# Altium integrated library Analog Devices Data Converters Analog-to-Digital Converters.IntLib: 2400 symbols (part 233 of 338)
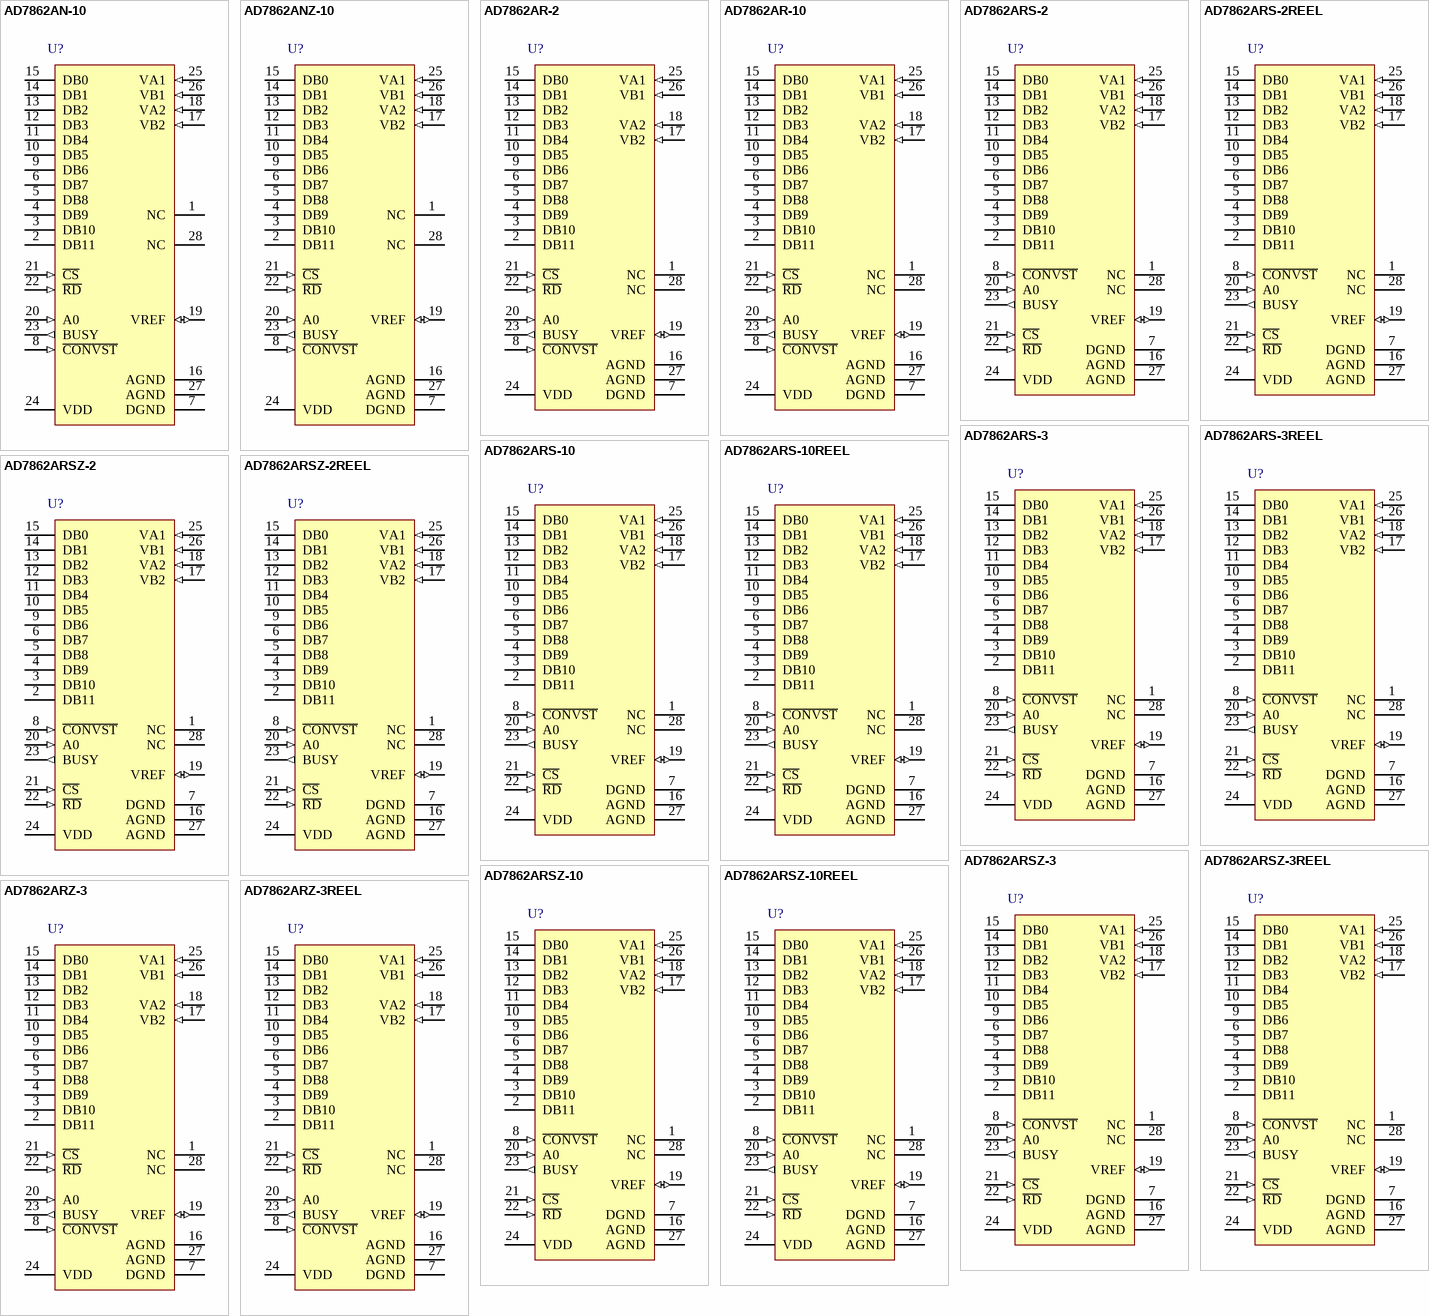
[diagram p282: symbols AD7862AN-10 to AD7862ARZ-3REEL]

## AD7862ANZ-10
designator U?
Quad 12-Bit Analog-to-Digital Converter with Parallel Interface, Simultaneous Sampling, 250KSPS, 0 to +70 degC, N-28-2, Pb-Free, Tube; Part Number: AD7862; Manufacturer: Analog Devices; Resolution (Bits): 12; Channels: 4; Throughput Rate (SPS): 250K; Interface: Par; DatasheetVersion: Rev.0; PackageVersion: 071006-A; PackageReference: N-28-2; PackageDescription: 28-Lead Plastic Dual In-Line Package [PDIP]; RoHS: Y; Packing: Tube; Mounting Technology: Through-hole; Code_JEDEC: MS-011; ComponentLink1Description: Manufacturer URL; ComponentLink1URL: http://www.analog.com/en/index.html; ComponentLink2Description: Datasheet; ComponentLink2URL: http://www.analog.com/static/imported-files/data_sheets/AD7862.pdf; ComponentLink3Description: Package Specification; ComponentLink3URL: http://www.analog.com/static/imported-files/packages/50849324123784N_28_2.pdf; ComponentLink4Description: Product URL; ComponentLink4URL: http://www.analog.com/en/analog-to-digital-converters/ad-converters/ad7862/products/product.html
footprint N-28-2 (DIP, 28-Leads, Row Spacing 15.55mm, Pitch 2.54mm, Body 37.4x13.5mm)
pins: 1 NC "No Connect", 2 DB11 (hiz) "Data Bit 11 (MSB). Three-state TTL output. Output coding is twos complement for the AD7862-10 and AD7862-3. Output coding is straight (natural) binary for the AD7862-2.", 3 DB10 (hiz) "Data Bit 10. Three-state TTL outputs.", 4 DB9 (hiz) "Data Bit 9. Three-state TTL outputs.", 5 DB8 (hiz) "Data Bit 8. Three-state TTL outputs.", 6 DB7 (hiz) "Data Bit 7. Three-state TTL outputs.", 7 DGND (power) "Digital Ground. Ground reference for digital circuitry.", 8 ~{CONVST} (in) "Convert Start Input. Logic Input. A high to low transition on this input puts both track/holds into their hold mode and starts conversion on both channels.", 9 DB6 (hiz) "Data Bit 6. Three-state TTL outputs.", 10 DB5 (hiz) "Data Bit 5. Three-state TTL outputs.", 11 DB4 (hiz) "Data Bit 4. Three-state TTL outputs.", 12 DB3 (hiz) "Data Bit 3. Three-state TTL outputs.", 13 DB2 (hiz) "Data Bit 2. Three-state TTL outputs.", 14 DB1 (hiz) "Data Bit 1. Three-state TTL outputs.", 15 DB0 (hiz) "Data Bit 0. Three-state TTL outputs.", 16 AGND (power) "Analog Ground. Ground reference for mux, track/hold, reference and DAC circuitry.", 17 VB2 (in) "Input Number 2 of Channel B. Analog Input voltage ranges of +/-10 V (AD7862-10), +/-2.5 V (AD7862-3) and 0 V-2.5 V (AD7862-2).", 18 VA2 (in) "Input Number 2 of Channel A. Analog Input voltage ranges of +/-10 V (AD7862-10), +/-2.5 V (AD7862-3) and 0 V-2.5 V (AD7862-2).", 19 VREF (io) "Reference Input/Output. This pin is connected to the internal reference through a series resistor and is the output reference source for the analog-to-digital converter. The nominal reference voltage is 2.5 V, and this (See Datasheet)", 20 A0 (in) "Multiplexer Select. This input is used in conjunction with R\D\ and C\S\ low to enable the data outputs. With A0 logic low, one read after a conversion will read the data from each of the ADCs in the sequence, VA1, VA2, and (See Datasheet)", 21 ~{CS} (in) "Chip Select Input. Active low logic input. The device is selected when this input is active.", 22 ~{RD} (in) "Read Input. Active low logic input. This input is used in conjunction with A0 and C\S\ low to enable the data outputs. With A0 logic low, one read after a conversion will read the data from each of the ADCs in the sequence, (See Datasheet)", 23 BUSY (out) "Busy Output. The busy output is triggered high by the falling edge of C\O\N\V\S\T\ and remains high until conversion is completed.", 24 VDD (power) "Analog and Digital Positive Supply Voltage, +5.0 V +/- 5%.", 25 VA1 (in) "Input Number 1 of Channel A. Analog Input voltage ranges of +/-10 V (AD7862-10), +/-2.5 V (AD7862-3) and 0 V-2.5 V (AD7862-2).", 26 VB1 (in) "Input Number 1 of Channel B. Analog Input voltage ranges of +/-10 V (AD7862-10), +/-2.5 V (AD7862-3) and 0 V-2.5 V (AD7862-2).", 27 AGND (power) "Analog Ground. Ground reference for mux, track/hold, reference and DAC circuitry.", 28 NC "No Connect"

## AD7862AR-2
designator U?
Quad 12-Bit Analog-to-Digital Converter with Parallel Interface, Simultaneous Sampling, 250KSPS, -40 to +85 degC, RW-28, Tube; Part Number: AD7862; Manufacturer: Analog Devices; Resolution (Bits): 12; Channels: 4; Throughput Rate (SPS): 250K; Interface: Par; DatasheetVersion: Rev.0; PackageVersion: 060706-A; PackageReference: RW-28; PackageDescription: 28-Lead Standard Small Outline Package [SOIC_W]; RoHS: N; Packing: Tube; Mounting Technology: Surface Mount; Code_JEDEC: MS-013-AE; ComponentLink1Description: Manufacturer URL; ComponentLink1URL: http://www.analog.com/en/index.html; ComponentLink2Description: Datasheet; ComponentLink2URL: http://www.analog.com/static/imported-files/data_sheets/AD7862.pdf; ComponentLink3Description: Package Specification; ComponentLink3URL: http://www.analog.com/static/imported-files/packages/35833120341221RW_28.pdf; ComponentLink4Description: Product URL; ComponentLink4URL: http://www.analog.com/en/analog-to-digital-converters/ad-converters/ad7862/products/product.html
footprint RW-28_N (SOIC, 28-Leads, Body 17.9x7.5mm, Pitch 1.27mm, IPC Medium Density)
footprint RW-28_L (SOIC, 28-Leads, Body 17.9x7.5mm, Pitch 1.27mm, IPC High Density)
footprint RW-28_M (SOIC, 28-Leads, Body 17.9x7.5mm, Pitch 1.27mm, IPC Low Density)
pins: 1 NC "No Connect", 2 DB11 (hiz) "Data Bit 11 (MSB). Three-state TTL output. Output coding is twos complement for the AD7862-10 and AD7862-3. Output coding is straight (natural) binary for the AD7862-2.", 3 DB10 (hiz) "Data Bit 10 to Data Bit 7. Three-state TTL outputs.", 4 DB9 (hiz) "Data Bit 10 to Data Bit 7. Three-state TTL outputs.", 5 DB8 (hiz) "Data Bit 10 to Data Bit 7. Three-state TTL outputs.", 6 DB7 (hiz) "Data Bit 10 to Data Bit 7. Three-state TTL outputs.", 7 DGND (power) "Digital Ground. Ground reference for digital circuitry.", 8 ~{CONVST} (in) "Convert Start Input. Logic Input. A high to low transition on this input puts both track/holds into their hold mode and starts conversion on both channels.", 9 DB6 (hiz) "Data Bit 6 to Data Bit 0. Three-state TTL outputs.", 10 DB5 (hiz) "Data Bit 6 to Data Bit 0. Three-state TTL outputs.", 11 DB4 (hiz) "Data Bit 6 to Data Bit 0. Three-state TTL outputs.", 12 DB3 (hiz) "Data Bit 6 to Data Bit 0. Three-state TTL outputs.", 13 DB2 (hiz) "Data Bit 6 to Data Bit 0. Three-state TTL outputs.", 14 DB1 (hiz) "Data Bit 6 to Data Bit 0. Three-state TTL outputs.", 15 DB0 (hiz) "Data Bit 6 to Data Bit 0. Three-state TTL outputs.", 16 AGND (power) "Analog Ground. Ground reference for mux, track/hold, reference and DAC circuitry.", 17 VB2 (in) "Input Number 2 of Channel B. Analog Input voltage ranges of +/-10 V (AD7862-10), +/-2.5 V (AD7862-3) and 0 V-2.5 V (AD7862-2).", 18 VA2 (in) "Input Number 2 of Channel A. Analog Input voltage ranges of +/-10 V (AD7862-10), +/-2.5 V (AD7862-3) and 0 V-2.5 V (AD7862-2).", 19 VREF (io) "Reference Input/Output. This pin is connected to the internal reference through a series resistor and is the output reference source for the analog-to-digital converter. The nominal reference voltage is 2.5 V,and this (See Datasheet)", 20 A0 (in) "Multiplexer Select. This input is used in conjunction with R\D\ and C\S\ low to enable the data outputs.With A0 logic low, one read after a conversion will read the data from each of the ADCs in the sequence,VA1, VA2, and a (See Datasheet)", 21 ~{CS} (in) "Chip Select Input. Active low logic input. The device is selected when this input is active.", 22 ~{RD} (in) "Read Input. Active low logic input. This input is used in conjunction with A0 and C\S\ low to enable the data outputs. With A0 logic low, one read after a conversion will read the data from each of the ADCs in the sequence, (See Datasheet)", 23 BUSY (out) "Busy Output. The busy output is triggered high by the falling edge of C\O\N\V\S\T\ and remains high until conversion is completed.", 24 VDD (power) "Analog and Digital Positive Supply Voltage, +5.0 V +/- 5%.", 25 VA1 (in) "Input Number 1 of Channel A. Analog Input voltage ranges of +/-10 V (AD7862-10), +/-2.5 V (AD7862-3) and 0 V-2.5 V (AD7862-2).", 26 VB1 (in) "Input Number 1 of Channel B. Analog Input voltage ranges of +/-10 V (AD7862-10), +/-2.5 V (AD7862-3) and 0 V-2.5 V (AD7862-2).", 27 AGND (power) "Analog Ground. Ground reference for mux, track/hold, reference and DAC circuitry.", 28 NC "No Connect"

## AD7862AR-10
designator U?
Quad 12-Bit Analog-to-Digital Converter with Parallel Interface, Simultaneous Sampling, 250KSPS, 0 to +70 degC, RW-28, Tube; Part Number: AD7862; Manufacturer: Analog Devices; Resolution (Bits): 12; Channels: 4; Throughput Rate (SPS): 250K; Interface: Par; DatasheetVersion: Rev.0; PackageVersion: 060706-A; PackageReference: RW-28; PackageDescription: 28-Lead Standard Small Outline Package [SOIC_W]; RoHS: N; Packing: Tube; Mounting Technology: Surface Mount; Code_JEDEC: MS-013-AE; ComponentLink1Description: Manufacturer URL; ComponentLink1URL: http://www.analog.com/en/index.html; ComponentLink2Description: Datasheet; ComponentLink2URL: http://www.analog.com/static/imported-files/data_sheets/AD7862.pdf; ComponentLink3Description: Package Specification; ComponentLink3URL: http://www.analog.com/static/imported-files/packages/35833120341221RW_28.pdf; ComponentLink4Description: Product URL; ComponentLink4URL: http://www.analog.com/en/analog-to-digital-converters/ad-converters/ad7862/products/product.html
footprint RW-28_N (SOIC, 28-Leads, Body 17.9x7.5mm, Pitch 1.27mm, IPC Medium Density)
footprint RW-28_L (SOIC, 28-Leads, Body 17.9x7.5mm, Pitch 1.27mm, IPC High Density)
footprint RW-28_M (SOIC, 28-Leads, Body 17.9x7.5mm, Pitch 1.27mm, IPC Low Density)
pins: 1 NC "No Connect", 2 DB11 (hiz) "Data Bit 11 (MSB). Three-state TTL output. Output coding is twos complement for the AD7862-10 and AD7862-3. Output coding is straight (natural) binary for the AD7862-2.", 3 DB10 (hiz) "Data Bit 10 to Data Bit 7. Three-state TTL outputs.", 4 DB9 (hiz) "Data Bit 10 to Data Bit 7. Three-state TTL outputs.", 5 DB8 (hiz) "Data Bit 10 to Data Bit 7. Three-state TTL outputs.", 6 DB7 (hiz) "Data Bit 10 to Data Bit 7. Three-state TTL outputs.", 7 DGND (power) "Digital Ground. Ground reference for digital circuitry.", 8 ~{CONVST} (in) "Convert Start Input. Logic Input. A high to low transition on this input puts both track/holds into their hold mode and starts conversion on both channels.", 9 DB6 (hiz) "Data Bit 6 to Data Bit 0. Three-state TTL outputs.", 10 DB5 (hiz) "Data Bit 6 to Data Bit 0. Three-state TTL outputs.", 11 DB4 (hiz) "Data Bit 6 to Data Bit 0. Three-state TTL outputs.", 12 DB3 (hiz) "Data Bit 6 to Data Bit 0. Three-state TTL outputs.", 13 DB2 (hiz) "Data Bit 6 to Data Bit 0. Three-state TTL outputs.", 14 DB1 (hiz) "Data Bit 6 to Data Bit 0. Three-state TTL outputs.", 15 DB0 (hiz) "Data Bit 6 to Data Bit 0. Three-state TTL outputs.", 16 AGND (power) "Analog Ground. Ground reference for mux, track/hold, reference and DAC circuitry.", 17 VB2 (in) "Input Number 2 of Channel B. Analog Input voltage ranges of +/-10 V (AD7862-10), +/-2.5 V (AD7862-3) and 0 V-2.5 V (AD7862-2).", 18 VA2 (in) "Input Number 2 of Channel A. Analog Input voltage ranges of +/-10 V (AD7862-10), +/-2.5 V (AD7862-3) and 0 V-2.5 V (AD7862-2).", 19 VREF (io) "Reference Input/Output. This pin is connected to the internal reference through a series resistor and is the output reference source for the analog-to-digital converter. The nominal reference voltage is 2.5 V,and this (See Datasheet)", 20 A0 (in) "Multiplexer Select. This input is used in conjunction with R\D\ and C\S\ low to enable the data outputs.With A0 logic low, one read after a conversion will read the data from each of the ADCs in the sequence,VA1, VA2, and a (See Datasheet)", 21 ~{CS} (in) "Chip Select Input. Active low logic input. The device is selected when this input is active.", 22 ~{RD} (in) "Read Input. Active low logic input. This input is used in conjunction with A0 and C\S\ low to enable the data outputs. With A0 logic low, one read after a conversion will read the data from each of the ADCs in the sequence, (See Datasheet)", 23 BUSY (out) "Busy Output. The busy output is triggered high by the falling edge of C\O\N\V\S\T\ and remains high until conversion is completed.", 24 VDD (power) "Analog and Digital Positive Supply Voltage, +5.0 V +/- 5%.", 25 VA1 (in) "Input Number 1 of Channel A. Analog Input voltage ranges of +/-10 V (AD7862-10), +/-2.5 V (AD7862-3) and 0 V-2.5 V (AD7862-2).", 26 VB1 (in) "Input Number 1 of Channel B. Analog Input voltage ranges of +/-10 V (AD7862-10), +/-2.5 V (AD7862-3) and 0 V-2.5 V (AD7862-2).", 27 AGND (power) "Analog Ground. Ground reference for mux, track/hold, reference and DAC circuitry.", 28 NC "No Connect"

## AD7862ARS-2
designator U?
Quad 12-Bit Analog-to-Digital Converter with Parallel Interface, Simultaneous Sampling, 250KSPS, 0 to +70 degC, RS-28, Tube; Part Number: AD7862; Manufacturer: Analog Devices; Resolution (Bits): 12; Channels: 4; Throughput Rate (SPS): 250K; Interface: Par; DatasheetVersion: Rev.0; PackageVersion: 060106-A; PackageReference: RS-28; PackageDescription: 28-Lead Shrink Small Outline Package [SSOP]; RoHS: N; Packing: Tube; Mounting Technology: Surface Mount; Code_JEDEC: MO-150-AH; ComponentLink1Description: Manufacturer URL; ComponentLink1URL: http://www.analog.com/en/index.html; ComponentLink2Description: Datasheet; ComponentLink2URL: http://www.analog.com/static/imported-files/data_sheets/AD7862.pdf; ComponentLink3Description: Package Specification; ComponentLink3URL: http://www.analog.com/static/imported-files/packages/32122249223724RS_28.pdf; ComponentLink4Description: Product URL; ComponentLink4URL: http://www.analog.com/en/analog-to-digital-converters/ad-converters/ad7862/products/product.html
footprint RS-28_N (SOP, 28-Leads, Body 10.2x5.3mm, Pitch 0.65mm, IPC Medium Density)
footprint RS-28_L (SOP, 28-Leads, Body 10.2x5.3mm, Pitch 0.65mm, IPC High Density)
footprint RS-28_M (SOP, 28-Leads, Body 10.2x5.3mm, Pitch 0.65mm, IPC Low Density)
pins: 1 NC "No Connect", 2 DB11 (hiz) "Data Bit 11 (MSB).  Three-state TTL output.  Output coding is twos complement for the AD7862-10 and AD7862-3.  Output coding is straight (natural) binary for the AD7862-2.", 3 DB10 (hiz) "Data Bit 10. Three-state TTL outputs.", 4 DB9 (hiz) "Data Bit 9. Three-state TTL outputs.", 5 DB8 (hiz) "Data Bit 8. Three-state TTL outputs.", 6 DB7 (hiz) "Data Bit 7. Three-state TTL outputs.", 7 DGND (power) "Digital Ground. Ground reference for digital circuitry.", 8 ~{CONVST} (in) "Convert Start Input. Logic Input.  A high to low transition on this input puts both track/holds into their hold mode and starts conversion on both channels.", 9 DB6 (hiz) "Data Bit 6. Three-state TTL outputs.", 10 DB5 (hiz) "Data Bit 5. Three-state TTL outputs.", 11 DB4 (hiz) "Data Bit 4. Three-state TTL outputs.", 12 DB3 (hiz) "Data Bit 3. Three-state TTL outputs.", 13 DB2 (hiz) "Data Bit 2. Three-state TTL outputs.", 14 DB1 (hiz) "Data Bit 1. Three-state TTL outputs.", 15 DB0 (hiz) "Data Bit 0. Three-state TTL outputs.", 16 AGND (power) "Analog Ground. Ground reference for mux, track/hold, reference and DAC circuitry.", 17 VB2 (in) "Input Number 2 of Channel B.  Analog Input voltage ranges of +/-10 V (AD7862-10), +/-2.5 V (AD7862-3) and 0 V-2.5 V (AD7862-2).", 18 VA2 (in) "Input Number 2 of Channel A.  Analog Input voltage ranges of +/-10 V (AD7862-10), +/-2.5 V (AD7862-3) and 0 V-2.5 V (AD7862-2).", 19 VREF (io) "Reference Input/Output. This pin is connected to the internal reference through a series resistor and is the output reference source for the analog-to-digital converter. The nominal reference voltage is 2.5 V,and this (See Datasheet)", 20 A0 (in) "Multiplexer Select. This input is used in conjunction with R\D\ and C\S\ low to enable the data outputs.With A0 logic low, one read after a conversion will read the data from each of the ADCs in the sequence,VA1, VA2, and a (See Datasheet)", 21 ~{CS} (in) "Chip Select Input.  Active low logic input. The device is selected when this input is active.", 22 ~{RD} (in) "Read Input.  Active low logic input. This input is used in conjunction with A0 and C\S\ low to enable the data outputs.  With A0 logic low, one read after a conversion will read the data from each of the ADCs in the (See Datasheet)", 23 BUSY (out) "Busy Output. The busy output is triggered high by the falling edge of C\O\N\V\S\T\ and remains high until conversion is completed.", 24 VDD (power) "Analog and Digital Positive Supply Voltage, +5.0 V +/-5%.", 25 VA1 (in) "Input Number 1 of Channel A.  Analog Input voltage ranges of +/-10 V (AD7862-10), +/-2.5 V (AD7862-3) and 0 V-2.5 V (AD7862-2).", 26 VB1 (in) "Input Number 1 of Channel B.  Analog Input voltage ranges of +/-10 V (AD7862-10), +/-2.5 V (AD7862-3) and 0 V-2.5 V (AD7862-2).", 27 AGND (power) "Analog Ground. Ground reference for mux, track/hold, reference and DAC circuitry.", 28 NC "No Connect"

## AD7862ARS-2REEL
designator U?
Quad 12-Bit Analog-to-Digital Converter with Parallel Interface, Simultaneous Sampling, 250KSPS, 0 to +70 degC, RS-28, Reel; Part Number: AD7862; Manufacturer: Analog Devices; Resolution (Bits): 12; Channels: 4; Throughput Rate (SPS): 250K; Interface: Par; DatasheetVersion: Rev.0; PackageVersion: 060106-A; PackageReference: RS-28; PackageDescription: 28-Lead Shrink Small Outline Package [SSOP]; RoHS: N; Packing: Reel; Mounting Technology: Surface Mount; Code_JEDEC: MO-150-AH; ComponentLink1Description: Manufacturer URL; ComponentLink1URL: http://www.analog.com/en/index.html; ComponentLink2Description: Datasheet; ComponentLink2URL: http://www.analog.com/static/imported-files/data_sheets/AD7862.pdf; ComponentLink3Description: Package Specification; ComponentLink3URL: http://www.analog.com/static/imported-files/packages/32122249223724RS_28.pdf; ComponentLink4Description: Product URL; ComponentLink4URL: http://www.analog.com/en/analog-to-digital-converters/ad-converters/ad7862/products/product.html
footprint RS-28_N (SOP, 28-Leads, Body 10.2x5.3mm, Pitch 0.65mm, IPC Medium Density)
footprint RS-28_L (SOP, 28-Leads, Body 10.2x5.3mm, Pitch 0.65mm, IPC High Density)
footprint RS-28_M (SOP, 28-Leads, Body 10.2x5.3mm, Pitch 0.65mm, IPC Low Density)
pins: 1 NC "No Connect", 2 DB11 (hiz) "Data Bit 11 (MSB).  Three-state TTL output.  Output coding is twos complement for the AD7862-10 and AD7862-3.  Output coding is straight (natural) binary for the AD7862-2.", 3 DB10 (hiz) "Data Bit 10. Three-state TTL outputs.", 4 DB9 (hiz) "Data Bit 9. Three-state TTL outputs.", 5 DB8 (hiz) "Data Bit 8. Three-state TTL outputs.", 6 DB7 (hiz) "Data Bit 7. Three-state TTL outputs.", 7 DGND (power) "Digital Ground. Ground reference for digital circuitry.", 8 ~{CONVST} (in) "Convert Start Input. Logic Input.  A high to low transition on this input puts both track/holds into their hold mode and starts conversion on both channels.", 9 DB6 (hiz) "Data Bit 6. Three-state TTL outputs.", 10 DB5 (hiz) "Data Bit 5. Three-state TTL outputs.", 11 DB4 (hiz) "Data Bit 4. Three-state TTL outputs.", 12 DB3 (hiz) "Data Bit 3. Three-state TTL outputs.", 13 DB2 (hiz) "Data Bit 2. Three-state TTL outputs.", 14 DB1 (hiz) "Data Bit 1. Three-state TTL outputs.", 15 DB0 (hiz) "Data Bit 0. Three-state TTL outputs.", 16 AGND (power) "Analog Ground. Ground reference for mux, track/hold, reference and DAC circuitry.", 17 VB2 (in) "Input Number 2 of Channel B.  Analog Input voltage ranges of +/-10 V (AD7862-10), +/-2.5 V (AD7862-3) and 0 V-2.5 V (AD7862-2).", 18 VA2 (in) "Input Number 2 of Channel A.  Analog Input voltage ranges of +/-10 V (AD7862-10), +/-2.5 V (AD7862-3) and 0 V-2.5 V (AD7862-2).", 19 VREF (io) "Reference Input/Output. This pin is connected to the internal reference through a series resistor and is the output reference source for the analog-to-digital converter. The nominal reference voltage is 2.5 V,and this (See Datasheet)", 20 A0 (in) "Multiplexer Select. This input is used in conjunction with R\D\ and C\S\ low to enable the data outputs.With A0 logic low, one read after a conversion will read the data from each of the ADCs in the sequence,VA1, VA2, and a (See Datasheet)", 21 ~{CS} (in) "Chip Select Input.  Active low logic input. The device is selected when this input is active.", 22 ~{RD} (in) "Read Input.  Active low logic input. This input is used in conjunction with A0 and C\S\ low to enable the data outputs.  With A0 logic low, one read after a conversion will read the data from each of the ADCs in the (See Datasheet)", 23 BUSY (out) "Busy Output. The busy output is triggered high by the falling edge of C\O\N\V\S\T\ and remains high until conversion is completed.", 24 VDD (power) "Analog and Digital Positive Supply Voltage, +5.0 V +/-5%.", 25 VA1 (in) "Input Number 1 of Channel A.  Analog Input voltage ranges of +/-10 V (AD7862-10), +/-2.5 V (AD7862-3) and 0 V-2.5 V (AD7862-2).", 26 VB1 (in) "Input Number 1 of Channel B.  Analog Input voltage ranges of +/-10 V (AD7862-10), +/-2.5 V (AD7862-3) and 0 V-2.5 V (AD7862-2).", 27 AGND (power) "Analog Ground. Ground reference for mux, track/hold, reference and DAC circuitry.", 28 NC "No Connect"

## AD7862ARS-3
designator U?
Quad 12-Bit Analog-to-Digital Converter with Parallel Interface, Simultaneous Sampling, 250KSPS, 0 to +70 degC, RS-28, Tube; Part Number: AD7862; Manufacturer: Analog Devices; Resolution (Bits): 12; Channels: 4; Throughput Rate (SPS): 250K; Interface: Par; DatasheetVersion: Rev.0; PackageVersion: 060106-A; PackageReference: RS-28; PackageDescription: 28-Lead Shrink Small Outline Package [SSOP]; RoHS: N; Packing: Tube; Mounting Technology: Surface Mount; Code_JEDEC: MO-150-AH; ComponentLink1Description: Manufacturer URL; ComponentLink1URL: http://www.analog.com/en/index.html; ComponentLink2Description: Datasheet; ComponentLink2URL: http://www.analog.com/static/imported-files/data_sheets/AD7862.pdf; ComponentLink3Description: Package Specification; ComponentLink3URL: http://www.analog.com/static/imported-files/packages/32122249223724RS_28.pdf; ComponentLink4Description: Product URL; ComponentLink4URL: http://www.analog.com/en/analog-to-digital-converters/ad-converters/ad7862/products/product.html
footprint RS-28_N (SOP, 28-Leads, Body 10.2x5.3mm, Pitch 0.65mm, IPC Medium Density)
footprint RS-28_L (SOP, 28-Leads, Body 10.2x5.3mm, Pitch 0.65mm, IPC High Density)
footprint RS-28_M (SOP, 28-Leads, Body 10.2x5.3mm, Pitch 0.65mm, IPC Low Density)
pins: 1 NC "No Connect", 2 DB11 (hiz) "Data Bit 11 (MSB).  Three-state TTL output.  Output coding is twos complement for the AD7862-10 and AD7862-3.  Output coding is straight (natural) binary for the AD7862-2.", 3 DB10 (hiz) "Data Bit 10. Three-state TTL outputs.", 4 DB9 (hiz) "Data Bit 9. Three-state TTL outputs.", 5 DB8 (hiz) "Data Bit 8. Three-state TTL outputs.", 6 DB7 (hiz) "Data Bit 7. Three-state TTL outputs.", 7 DGND (power) "Digital Ground. Ground reference for digital circuitry.", 8 ~{CONVST} (in) "Convert Start Input. Logic Input.  A high to low transition on this input puts both track/holds into their hold mode and starts conversion on both channels.", 9 DB6 (hiz) "Data Bit 6. Three-state TTL outputs.", 10 DB5 (hiz) "Data Bit 5. Three-state TTL outputs.", 11 DB4 (hiz) "Data Bit 4. Three-state TTL outputs.", 12 DB3 (hiz) "Data Bit 3. Three-state TTL outputs.", 13 DB2 (hiz) "Data Bit 2. Three-state TTL outputs.", 14 DB1 (hiz) "Data Bit 1. Three-state TTL outputs.", 15 DB0 (hiz) "Data Bit 0. Three-state TTL outputs.", 16 AGND (power) "Analog Ground. Ground reference for mux, track/hold, reference and DAC circuitry.", 17 VB2 (in) "Input Number 2 of Channel B.  Analog Input voltage ranges of +/-10 V (AD7862-10), +/-2.5 V (AD7862-3) and 0 V-2.5 V (AD7862-2).", 18 VA2 (in) "Input Number 2 of Channel A.  Analog Input voltage ranges of +/-10 V (AD7862-10), +/-2.5 V (AD7862-3) and 0 V-2.5 V (AD7862-2).", 19 VREF (io) "Reference Input/Output. This pin is connected to the internal reference through a series resistor and is the output reference source for the analog-to-digital converter. The nominal reference voltage is 2.5 V,and this (See Datasheet)", 20 A0 (in) "Multiplexer Select. This input is used in conjunction with R\D\ and C\S\ low to enable the data outputs.With A0 logic low, one read after a conversion will read the data from each of the ADCs in the sequence,VA1, VA2, and a (See Datasheet)", 21 ~{CS} (in) "Chip Select Input.  Active low logic input. The device is selected when this input is active.", 22 ~{RD} (in) "Read Input.  Active low logic input. This input is used in conjunction with A0 and C\S\ low to enable the data outputs.  With A0 logic low, one read after a conversion will read the data from each of the ADCs in the (See Datasheet)", 23 BUSY (out) "Busy Output. The busy output is triggered high by the falling edge of C\O\N\V\S\T\ and remains high until conversion is completed.", 24 VDD (power) "Analog and Digital Positive Supply Voltage, +5.0 V +/-5%.", 25 VA1 (in) "Input Number 1 of Channel A.  Analog Input voltage ranges of +/-10 V (AD7862-10), +/-2.5 V (AD7862-3) and 0 V-2.5 V (AD7862-2).", 26 VB1 (in) "Input Number 1 of Channel B.  Analog Input voltage ranges of +/-10 V (AD7862-10), +/-2.5 V (AD7862-3) and 0 V-2.5 V (AD7862-2).", 27 AGND (power) "Analog Ground. Ground reference for mux, track/hold, reference and DAC circuitry.", 28 NC "No Connect"

## AD7862ARS-3REEL
designator U?
Quad 12-Bit Analog-to-Digital Converter with Parallel Interface, Simultaneous Sampling, 250KSPS, 0 to +70 degC, RS-28, Reel; Part Number: AD7862; Manufacturer: Analog Devices; Resolution (Bits): 12; Channels: 4; Throughput Rate (SPS): 250K; Interface: Par; DatasheetVersion: Rev.0; PackageVersion: 060106-A; PackageReference: RS-28; PackageDescription: 28-Lead Shrink Small Outline Package [SSOP]; RoHS: N; Packing: Reel; Mounting Technology: Surface Mount; Code_JEDEC: MO-150-AH; ComponentLink1Description: Manufacturer URL; ComponentLink1URL: http://www.analog.com/en/index.html; ComponentLink2Description: Datasheet; ComponentLink2URL: http://www.analog.com/static/imported-files/data_sheets/AD7862.pdf; ComponentLink3Description: Package Specification; ComponentLink3URL: http://www.analog.com/static/imported-files/packages/32122249223724RS_28.pdf; ComponentLink4Description: Product URL; ComponentLink4URL: http://www.analog.com/en/analog-to-digital-converters/ad-converters/ad7862/products/product.html
footprint RS-28_N (SOP, 28-Leads, Body 10.2x5.3mm, Pitch 0.65mm, IPC Medium Density)
footprint RS-28_L (SOP, 28-Leads, Body 10.2x5.3mm, Pitch 0.65mm, IPC High Density)
footprint RS-28_M (SOP, 28-Leads, Body 10.2x5.3mm, Pitch 0.65mm, IPC Low Density)
pins: 1 NC "No Connect", 2 DB11 (hiz) "Data Bit 11 (MSB).  Three-state TTL output.  Output coding is twos complement for the AD7862-10 and AD7862-3.  Output coding is straight (natural) binary for the AD7862-2.", 3 DB10 (hiz) "Data Bit 10. Three-state TTL outputs.", 4 DB9 (hiz) "Data Bit 9. Three-state TTL outputs.", 5 DB8 (hiz) "Data Bit 8. Three-state TTL outputs.", 6 DB7 (hiz) "Data Bit 7. Three-state TTL outputs.", 7 DGND (power) "Digital Ground. Ground reference for digital circuitry.", 8 ~{CONVST} (in) "Convert Start Input. Logic Input.  A high to low transition on this input puts both track/holds into their hold mode and starts conversion on both channels.", 9 DB6 (hiz) "Data Bit 6. Three-state TTL outputs.", 10 DB5 (hiz) "Data Bit 5. Three-state TTL outputs.", 11 DB4 (hiz) "Data Bit 4. Three-state TTL outputs.", 12 DB3 (hiz) "Data Bit 3. Three-state TTL outputs.", 13 DB2 (hiz) "Data Bit 2. Three-state TTL outputs.", 14 DB1 (hiz) "Data Bit 1. Three-state TTL outputs.", 15 DB0 (hiz) "Data Bit 0. Three-state TTL outputs.", 16 AGND (power) "Analog Ground. Ground reference for mux, track/hold, reference and DAC circuitry.", 17 VB2 (in) "Input Number 2 of Channel B.  Analog Input voltage ranges of +/-10 V (AD7862-10), +/-2.5 V (AD7862-3) and 0 V-2.5 V (AD7862-2).", 18 VA2 (in) "Input Number 2 of Channel A.  Analog Input voltage ranges of +/-10 V (AD7862-10), +/-2.5 V (AD7862-3) and 0 V-2.5 V (AD7862-2).", 19 VREF (io) "Reference Input/Output. This pin is connected to the internal reference through a series resistor and is the output reference source for the analog-to-digital converter. The nominal reference voltage is 2.5 V,and this (See Datasheet)", 20 A0 (in) "Multiplexer Select. This input is used in conjunction with R\D\ and C\S\ low to enable the data outputs.With A0 logic low, one read after a conversion will read the data from each of the ADCs in the sequence,VA1, VA2, and a (See Datasheet)", 21 ~{CS} (in) "Chip Select Input.  Active low logic input. The device is selected when this input is active.", 22 ~{RD} (in) "Read Input.  Active low logic input. This input is used in conjunction with A0 and C\S\ low to enable the data outputs.  With A0 logic low, one read after a conversion will read the data from each of the ADCs in the (See Datasheet)", 23 BUSY (out) "Busy Output. The busy output is triggered high by the falling edge of C\O\N\V\S\T\ and remains high until conversion is completed.", 24 VDD (power) "Analog and Digital Positive Supply Voltage, +5.0 V +/-5%.", 25 VA1 (in) "Input Number 1 of Channel A.  Analog Input voltage ranges of +/-10 V (AD7862-10), +/-2.5 V (AD7862-3) and 0 V-2.5 V (AD7862-2).", 26 VB1 (in) "Input Number 1 of Channel B.  Analog Input voltage ranges of +/-10 V (AD7862-10), +/-2.5 V (AD7862-3) and 0 V-2.5 V (AD7862-2).", 27 AGND (power) "Analog Ground. Ground reference for mux, track/hold, reference and DAC circuitry.", 28 NC "No Connect"

## AD7862ARS-10
designator U?
Quad 12-Bit Analog-to-Digital Converter with Parallel Interface, Simultaneous Sampling, 250KSPS, 0 to +70 degC, RS-28, Tube; Part Number: AD7862; Manufacturer: Analog Devices; Resolution (Bits): 12; Channels: 4; Throughput Rate (SPS): 250K; Interface: Par; DatasheetVersion: Rev.0; PackageVersion: 060106-A; PackageReference: RS-28; PackageDescription: 28-Lead Shrink Small Outline Package [SSOP]; RoHS: N; Packing: Tube; Mounting Technology: Surface Mount; Code_JEDEC: MO-150-AH; ComponentLink1Description: Manufacturer URL; ComponentLink1URL: http://www.analog.com/en/index.html; ComponentLink2Description: Datasheet; ComponentLink2URL: http://www.analog.com/static/imported-files/data_sheets/AD7862.pdf; ComponentLink3Description: Package Specification; ComponentLink3URL: http://www.analog.com/static/imported-files/packages/32122249223724RS_28.pdf; ComponentLink4Description: Product URL; ComponentLink4URL: http://www.analog.com/en/analog-to-digital-converters/ad-converters/ad7862/products/product.html
footprint RS-28_N (SOP, 28-Leads, Body 10.2x5.3mm, Pitch 0.65mm, IPC Medium Density)
footprint RS-28_L (SOP, 28-Leads, Body 10.2x5.3mm, Pitch 0.65mm, IPC High Density)
footprint RS-28_M (SOP, 28-Leads, Body 10.2x5.3mm, Pitch 0.65mm, IPC Low Density)
pins: 1 NC "No Connect", 2 DB11 (hiz) "Data Bit 11 (MSB).  Three-state TTL output.  Output coding is twos complement for the AD7862-10 and AD7862-3.  Output coding is straight (natural) binary for the AD7862-2.", 3 DB10 (hiz) "Data Bit 10. Three-state TTL outputs.", 4 DB9 (hiz) "Data Bit 9. Three-state TTL outputs.", 5 DB8 (hiz) "Data Bit 8. Three-state TTL outputs.", 6 DB7 (hiz) "Data Bit 7. Three-state TTL outputs.", 7 DGND (power) "Digital Ground. Ground reference for digital circuitry.", 8 ~{CONVST} (in) "Convert Start Input. Logic Input.  A high to low transition on this input puts both track/holds into their hold mode and starts conversion on both channels.", 9 DB6 (hiz) "Data Bit 6. Three-state TTL outputs.", 10 DB5 (hiz) "Data Bit 5. Three-state TTL outputs.", 11 DB4 (hiz) "Data Bit 4. Three-state TTL outputs.", 12 DB3 (hiz) "Data Bit 3. Three-state TTL outputs.", 13 DB2 (hiz) "Data Bit 2. Three-state TTL outputs.", 14 DB1 (hiz) "Data Bit 1. Three-state TTL outputs.", 15 DB0 (hiz) "Data Bit 0. Three-state TTL outputs.", 16 AGND (power) "Analog Ground. Ground reference for mux, track/hold, reference and DAC circuitry.", 17 VB2 (in) "Input Number 2 of Channel B.  Analog Input voltage ranges of +/-10 V (AD7862-10), +/-2.5 V (AD7862-3) and 0 V-2.5 V (AD7862-2).", 18 VA2 (in) "Input Number 2 of Channel A.  Analog Input voltage ranges of +/-10 V (AD7862-10), +/-2.5 V (AD7862-3) and 0 V-2.5 V (AD7862-2).", 19 VREF (io) "Reference Input/Output. This pin is connected to the internal reference through a series resistor and is the output reference source for the analog-to-digital converter. The nominal reference voltage is 2.5 V,and this (See Datasheet)", 20 A0 (in) "Multiplexer Select. This input is used in conjunction with R\D\ and C\S\ low to enable the data outputs.With A0 logic low, one read after a conversion will read the data from each of the ADCs in the sequence,VA1, VA2, and a (See Datasheet)", 21 ~{CS} (in) "Chip Select Input.  Active low logic input. The device is selected when this input is active.", 22 ~{RD} (in) "Read Input.  Active low logic input. This input is used in conjunction with A0 and C\S\ low to enable the data outputs.  With A0 logic low, one read after a conversion will read the data from each of the ADCs in the (See Datasheet)", 23 BUSY (out) "Busy Output. The busy output is triggered high by the falling edge of C\O\N\V\S\T\ and remains high until conversion is completed.", 24 VDD (power) "Analog and Digital Positive Supply Voltage, +5.0 V +/-5%.", 25 VA1 (in) "Input Number 1 of Channel A.  Analog Input voltage ranges of +/-10 V (AD7862-10), +/-2.5 V (AD7862-3) and 0 V-2.5 V (AD7862-2).", 26 VB1 (in) "Input Number 1 of Channel B.  Analog Input voltage ranges of +/-10 V (AD7862-10), +/-2.5 V (AD7862-3) and 0 V-2.5 V (AD7862-2).", 27 AGND (power) "Analog Ground. Ground reference for mux, track/hold, reference and DAC circuitry.", 28 NC "No Connect"

## AD7862ARS-10REEL
designator U?
Quad 12-Bit Analog-to-Digital Converter with Parallel Interface, Simultaneous Sampling, 250KSPS, 0 to +70 degC, RS-28, Reel; Part Number: AD7862; Manufacturer: Analog Devices; Resolution (Bits): 12; Channels: 4; Throughput Rate (SPS): 250K; Interface: Par; DatasheetVersion: Rev.0; PackageVersion: 060106-A; PackageReference: RS-28; PackageDescription: 28-Lead Shrink Small Outline Package [SSOP]; RoHS: N; Packing: Reel; Mounting Technology: Surface Mount; Code_JEDEC: MO-150-AH; ComponentLink1Description: Manufacturer URL; ComponentLink1URL: http://www.analog.com/en/index.html; ComponentLink2Description: Datasheet; ComponentLink2URL: http://www.analog.com/static/imported-files/data_sheets/AD7862.pdf; ComponentLink3Description: Package Specification; ComponentLink3URL: http://www.analog.com/static/imported-files/packages/32122249223724RS_28.pdf; ComponentLink4Description: Product URL; ComponentLink4URL: http://www.analog.com/en/analog-to-digital-converters/ad-converters/ad7862/products/product.html
footprint RS-28_N (SOP, 28-Leads, Body 10.2x5.3mm, Pitch 0.65mm, IPC Medium Density)
footprint RS-28_L (SOP, 28-Leads, Body 10.2x5.3mm, Pitch 0.65mm, IPC High Density)
footprint RS-28_M (SOP, 28-Leads, Body 10.2x5.3mm, Pitch 0.65mm, IPC Low Density)
pins: 1 NC "No Connect", 2 DB11 (hiz) "Data Bit 11 (MSB).  Three-state TTL output.  Output coding is twos complement for the AD7862-10 and AD7862-3.  Output coding is straight (natural) binary for the AD7862-2.", 3 DB10 (hiz) "Data Bit 10. Three-state TTL outputs.", 4 DB9 (hiz) "Data Bit 9. Three-state TTL outputs.", 5 DB8 (hiz) "Data Bit 8. Three-state TTL outputs.", 6 DB7 (hiz) "Data Bit 7. Three-state TTL outputs.", 7 DGND (power) "Digital Ground. Ground reference for digital circuitry.", 8 ~{CONVST} (in) "Convert Start Input. Logic Input.  A high to low transition on this input puts both track/holds into their hold mode and starts conversion on both channels.", 9 DB6 (hiz) "Data Bit 6. Three-state TTL outputs.", 10 DB5 (hiz) "Data Bit 5. Three-state TTL outputs.", 11 DB4 (hiz) "Data Bit 4. Three-state TTL outputs.", 12 DB3 (hiz) "Data Bit 3. Three-state TTL outputs.", 13 DB2 (hiz) "Data Bit 2. Three-state TTL outputs.", 14 DB1 (hiz) "Data Bit 1. Three-state TTL outputs.", 15 DB0 (hiz) "Data Bit 0. Three-state TTL outputs.", 16 AGND (power) "Analog Ground. Ground reference for mux, track/hold, reference and DAC circuitry.", 17 VB2 (in) "Input Number 2 of Channel B.  Analog Input voltage ranges of +/-10 V (AD7862-10), +/-2.5 V (AD7862-3) and 0 V-2.5 V (AD7862-2).", 18 VA2 (in) "Input Number 2 of Channel A.  Analog Input voltage ranges of +/-10 V (AD7862-10), +/-2.5 V (AD7862-3) and 0 V-2.5 V (AD7862-2).", 19 VREF (io) "Reference Input/Output. This pin is connected to the internal reference through a series resistor and is the output reference source for the analog-to-digital converter. The nominal reference voltage is 2.5 V,and this (See Datasheet)", 20 A0 (in) "Multiplexer Select. This input is used in conjunction with R\D\ and C\S\ low to enable the data outputs.With A0 logic low, one read after a conversion will read the data from each of the ADCs in the sequence,VA1, VA2, and a (See Datasheet)", 21 ~{CS} (in) "Chip Select Input.  Active low logic input. The device is selected when this input is active.", 22 ~{RD} (in) "Read Input.  Active low logic input. This input is used in conjunction with A0 and C\S\ low to enable the data outputs.  With A0 logic low, one read after a conversion will read the data from each of the ADCs in the (See Datasheet)", 23 BUSY (out) "Busy Output. The busy output is triggered high by the falling edge of C\O\N\V\S\T\ and remains high until conversion is completed.", 24 VDD (power) "Analog and Digital Positive Supply Voltage, +5.0 V +/-5%.", 25 VA1 (in) "Input Number 1 of Channel A.  Analog Input voltage ranges of +/-10 V (AD7862-10), +/-2.5 V (AD7862-3) and 0 V-2.5 V (AD7862-2).", 26 VB1 (in) "Input Number 1 of Channel B.  Analog Input voltage ranges of +/-10 V (AD7862-10), +/-2.5 V (AD7862-3) and 0 V-2.5 V (AD7862-2).", 27 AGND (power) "Analog Ground. Ground reference for mux, track/hold, reference and DAC circuitry.", 28 NC "No Connect"

## AD7862ARSZ-2
designator U?
Quad 12-Bit Analog-to-Digital Converter with Parallel Interface, Simultaneous Sampling, 250KSPS, -40 to +85 degC, RS-28, Pb-Free, Tube; Part Number: AD7862; Manufacturer: Analog Devices; Resolution (Bits): 12; Channels: 4; Throughput Rate (SPS): 250K; Interface: Par; DatasheetVersion: Rev.0; PackageVersion: 060106-A; PackageReference: RS-28; PackageDescription: 28-Lead Shrink Small Outline Package [SSOP]; RoHS: Y; Packing: Tube; Mounting Technology: Surface Mount; Code_JEDEC: MO-150-AH; ComponentLink1Description: Manufacturer URL; ComponentLink1URL: http://www.analog.com/en/index.html; ComponentLink2Description: Datasheet; ComponentLink2URL: http://www.analog.com/static/imported-files/data_sheets/AD7862.pdf; ComponentLink3Description: Package Specification; ComponentLink3URL: http://www.analog.com/static/imported-files/packages/32122249223724RS_28.pdf; ComponentLink4Description: Product URL; ComponentLink4URL: http://www.analog.com/en/analog-to-digital-converters/ad-converters/ad7862/products/product.html
footprint RS-28_N (SOP, 28-Leads, Body 10.2x5.3mm, Pitch 0.65mm, IPC Medium Density)
footprint RS-28_L (SOP, 28-Leads, Body 10.2x5.3mm, Pitch 0.65mm, IPC High Density)
footprint RS-28_M (SOP, 28-Leads, Body 10.2x5.3mm, Pitch 0.65mm, IPC Low Density)
pins: 1 NC "No Connect", 2 DB11 (hiz) "Data Bit 11 (MSB).  Three-state TTL output.  Output coding is twos complement for the AD7862-10 and AD7862-3.  Output coding is straight (natural) binary for the AD7862-2.", 3 DB10 (hiz) "Data Bit 10. Three-state TTL outputs.", 4 DB9 (hiz) "Data Bit 9. Three-state TTL outputs.", 5 DB8 (hiz) "Data Bit 8. Three-state TTL outputs.", 6 DB7 (hiz) "Data Bit 7. Three-state TTL outputs.", 7 DGND (power) "Digital Ground. Ground reference for digital circuitry.", 8 ~{CONVST} (in) "Convert Start Input. Logic Input.  A high to low transition on this input puts both track/holds into their hold mode and starts conversion on both channels.", 9 DB6 (hiz) "Data Bit 6. Three-state TTL outputs.", 10 DB5 (hiz) "Data Bit 5. Three-state TTL outputs.", 11 DB4 (hiz) "Data Bit 4. Three-state TTL outputs.", 12 DB3 (hiz) "Data Bit 3. Three-state TTL outputs.", 13 DB2 (hiz) "Data Bit 2. Three-state TTL outputs.", 14 DB1 (hiz) "Data Bit 1. Three-state TTL outputs.", 15 DB0 (hiz) "Data Bit 0. Three-state TTL outputs.", 16 AGND (power) "Analog Ground. Ground reference for mux, track/hold, reference and DAC circuitry.", 17 VB2 (in) "Input Number 2 of Channel B.  Analog Input voltage ranges of +/-10 V (AD7862-10), +/-2.5 V (AD7862-3) and 0 V-2.5 V (AD7862-2).", 18 VA2 (in) "Input Number 2 of Channel A.  Analog Input voltage ranges of +/-10 V (AD7862-10), +/-2.5 V (AD7862-3) and 0 V-2.5 V (AD7862-2).", 19 VREF (io) "Reference Input/Output. This pin is connected to the internal reference through a series resistor and is the output reference source for the analog-to-digital converter. The nominal reference voltage is 2.5 V,and this (See Datasheet)", 20 A0 (in) "Multiplexer Select. This input is used in conjunction with R\D\ and C\S\ low to enable the data outputs.With A0 logic low, one read after a conversion will read the data from each of the ADCs in the sequence,VA1, VA2, and a (See Datasheet)", 21 ~{CS} (in) "Chip Select Input.  Active low logic input. The device is selected when this input is active.", 22 ~{RD} (in) "Read Input.  Active low logic input. This input is used in conjunction with A0 and C\S\ low to enable the data outputs.  With A0 logic low, one read after a conversion will read the data from each of the ADCs in the (See Datasheet)", 23 BUSY (out) "Busy Output. The busy output is triggered high by the falling edge of C\O\N\V\S\T\ and remains high until conversion is completed.", 24 VDD (power) "Analog and Digital Positive Supply Voltage, +5.0 V +/-5%.", 25 VA1 (in) "Input Number 1 of Channel A.  Analog Input voltage ranges of +/-10 V (AD7862-10), +/-2.5 V (AD7862-3) and 0 V-2.5 V (AD7862-2).", 26 VB1 (in) "Input Number 1 of Channel B.  Analog Input voltage ranges of +/-10 V (AD7862-10), +/-2.5 V (AD7862-3) and 0 V-2.5 V (AD7862-2).", 27 AGND (power) "Analog Ground. Ground reference for mux, track/hold, reference and DAC circuitry.", 28 NC "No Connect"

## AD7862ARSZ-2REEL
designator U?
Quad 12-Bit Analog-to-Digital Converter with Parallel Interface, Simultaneous Sampling, 250KSPS, -40 to +85 degC, RS-28, Pb-Free, Reel; Part Number: AD7862; Manufacturer: Analog Devices; Resolution (Bits): 12; Channels: 4; Throughput Rate (SPS): 250K; Interface: Par; DatasheetVersion: Rev.0; PackageVersion: 060106-A; PackageReference: RS-28; PackageDescription: 28-Lead Shrink Small Outline Package [SSOP]; RoHS: Y; Packing: Reel; Mounting Technology: Surface Mount; Code_JEDEC: MO-150-AH; ComponentLink1Description: Manufacturer URL; ComponentLink1URL: http://www.analog.com/en/index.html; ComponentLink2Description: Datasheet; ComponentLink2URL: http://www.analog.com/static/imported-files/data_sheets/AD7862.pdf; ComponentLink3Description: Package Specification; ComponentLink3URL: http://www.analog.com/static/imported-files/packages/32122249223724RS_28.pdf; ComponentLink4Description: Product URL; ComponentLink4URL: http://www.analog.com/en/analog-to-digital-converters/ad-converters/ad7862/products/product.html
footprint RS-28_N (SOP, 28-Leads, Body 10.2x5.3mm, Pitch 0.65mm, IPC Medium Density)
footprint RS-28_L (SOP, 28-Leads, Body 10.2x5.3mm, Pitch 0.65mm, IPC High Density)
footprint RS-28_M (SOP, 28-Leads, Body 10.2x5.3mm, Pitch 0.65mm, IPC Low Density)
pins: 1 NC "No Connect", 2 DB11 (hiz) "Data Bit 11 (MSB).  Three-state TTL output.  Output coding is twos complement for the AD7862-10 and AD7862-3.  Output coding is straight (natural) binary for the AD7862-2.", 3 DB10 (hiz) "Data Bit 10. Three-state TTL outputs.", 4 DB9 (hiz) "Data Bit 9. Three-state TTL outputs.", 5 DB8 (hiz) "Data Bit 8. Three-state TTL outputs.", 6 DB7 (hiz) "Data Bit 7. Three-state TTL outputs.", 7 DGND (power) "Digital Ground. Ground reference for digital circuitry.", 8 ~{CONVST} (in) "Convert Start Input. Logic Input.  A high to low transition on this input puts both track/holds into their hold mode and starts conversion on both channels.", 9 DB6 (hiz) "Data Bit 6. Three-state TTL outputs.", 10 DB5 (hiz) "Data Bit 5. Three-state TTL outputs.", 11 DB4 (hiz) "Data Bit 4. Three-state TTL outputs.", 12 DB3 (hiz) "Data Bit 3. Three-state TTL outputs.", 13 DB2 (hiz) "Data Bit 2. Three-state TTL outputs.", 14 DB1 (hiz) "Data Bit 1. Three-state TTL outputs.", 15 DB0 (hiz) "Data Bit 0. Three-state TTL outputs.", 16 AGND (power) "Analog Ground. Ground reference for mux, track/hold, reference and DAC circuitry.", 17 VB2 (in) "Input Number 2 of Channel B.  Analog Input voltage ranges of +/-10 V (AD7862-10), +/-2.5 V (AD7862-3) and 0 V-2.5 V (AD7862-2).", 18 VA2 (in) "Input Number 2 of Channel A.  Analog Input voltage ranges of +/-10 V (AD7862-10), +/-2.5 V (AD7862-3) and 0 V-2.5 V (AD7862-2).", 19 VREF (io) "Reference Input/Output. This pin is connected to the internal reference through a series resistor and is the output reference source for the analog-to-digital converter. The nominal reference voltage is 2.5 V,and this (See Datasheet)", 20 A0 (in) "Multiplexer Select. This input is used in conjunction with R\D\ and C\S\ low to enable the data outputs.With A0 logic low, one read after a conversion will read the data from each of the ADCs in the sequence,VA1, VA2, and a (See Datasheet)", 21 ~{CS} (in) "Chip Select Input.  Active low logic input. The device is selected when this input is active.", 22 ~{RD} (in) "Read Input.  Active low logic input. This input is used in conjunction with A0 and C\S\ low to enable the data outputs.  With A0 logic low, one read after a conversion will read the data from each of the ADCs in the (See Datasheet)", 23 BUSY (out) "Busy Output. The busy output is triggered high by the falling edge of C\O\N\V\S\T\ and remains high until conversion is completed.", 24 VDD (power) "Analog and Digital Positive Supply Voltage, +5.0 V +/-5%.", 25 VA1 (in) "Input Number 1 of Channel A.  Analog Input voltage ranges of +/-10 V (AD7862-10), +/-2.5 V (AD7862-3) and 0 V-2.5 V (AD7862-2).", 26 VB1 (in) "Input Number 1 of Channel B.  Analog Input voltage ranges of +/-10 V (AD7862-10), +/-2.5 V (AD7862-3) and 0 V-2.5 V (AD7862-2).", 27 AGND (power) "Analog Ground. Ground reference for mux, track/hold, reference and DAC circuitry.", 28 NC "No Connect"